# EAGLE library part HDMI-FEMALE (library JetsonProj)
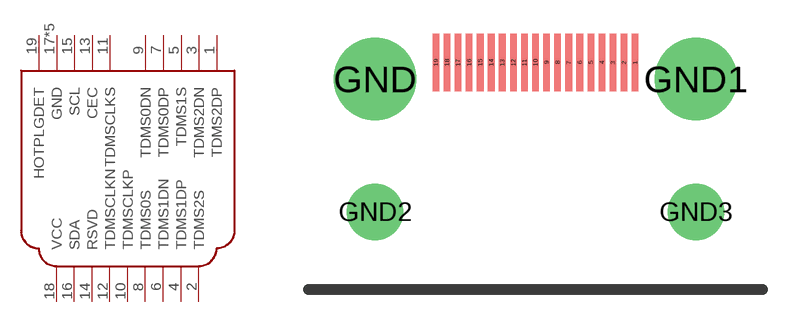
[diagram p3: symbol with the pads of 4715100XX; footprint 4715100XX]

Designator prefix -

## HDMI-FEMALE  [4715100XX]
1  TDMS2DP
2  TDMS2S
3  TDMS2DN
4  TDMS1DP
5  TDMS1S
6  TDMS1DN
7  TDMS0DP
8  TDMS0S
9  TDMS0DN
10  TDMSCLKP
11  TDMSCLKS
12  TDMSCLKN
13  CEC
14  RSVD
15  SCL
16  SDA
17  GND
18  VCC
19  HOTPLGDET
GND  GND
GND1  GND
GND2  GND
GND3  GND

## Footprint 4715100XX (pad centres in mm)
smd 0.3 x 2.6: 1 11.75,6.75; 2 11.25,6.75; 3 10.75,6.75; 4 10.25,6.75; 5 9.75,6.75; 6 9.25,6.75; 7 8.75,6.75; 8 8.25,6.75; 9 7.75,6.75; 10 7.25,6.75; 11 6.75,6.75; 12 6.25,6.75; 13 5.75,6.75; 14 5.25,6.75; 15 4.75,6.75; 16 4.25,6.75; 17 3.75,6.75; 18 3.25,6.75; 19 2.75,6.75
drill 2.7: GND 0,6; GND1 14.5,6
drill 1.7: GND2 0,0; GND3 14.5,0